# Altium schematic symbol library XT60.Schlib: 1 symbol
Pins are listed as number, name and electrical type; pins without a type are passive.

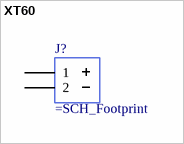
[diagram p0: symbol XT60]

## XT60
designator J?  (value not drawn)
XT60 connector
pins: 1, 2